# EAGLE library part DAC7811 (library DAC7811)
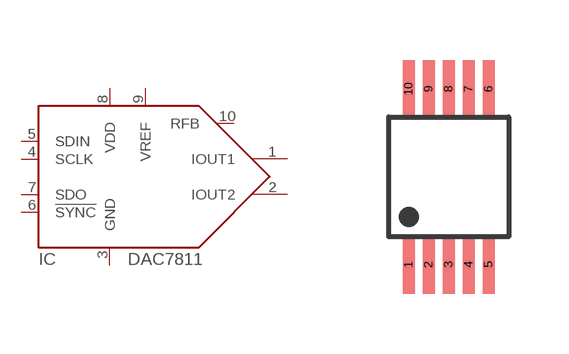
[diagram p0: symbol with the pads of S-PDSO-G10; footprint S-PDSO-G10]

Designator prefix IC

## DAC7811  [S-PDSO-G10]
1  IOUT1
2  IOUT2
3  GND
4  SCLK
5  SDIN
6  !SYNC!
7  SDO
8  VDD
9  VREF
10  RFB

## Footprint S-PDSO-G10 (pad centres in mm)
smd 0.3 x 1.45: 1 -1,-2.2; 2 -0.5,-2.2; 3 0,-2.2; 4 0.5,-2.2; 5 1,-2.2; 6 1,2.2; 7 0.5,2.2; 8 0,2.2; 9 -0.5,2.2; 10 -1,2.2